# Altium footprint library PEC11R-4115F-S0018.PcbLib: 1 footprints
Each footprint in its own frame and in the unit in brackets; x right, y up, seen from the top. Pads: shape width x height; smd on the part's side, far side on the other; paste and mask are expansions set on the pad; w line width, h text height; cw(c..) or ccw(c..) is an arc to the next point about the centre after c.
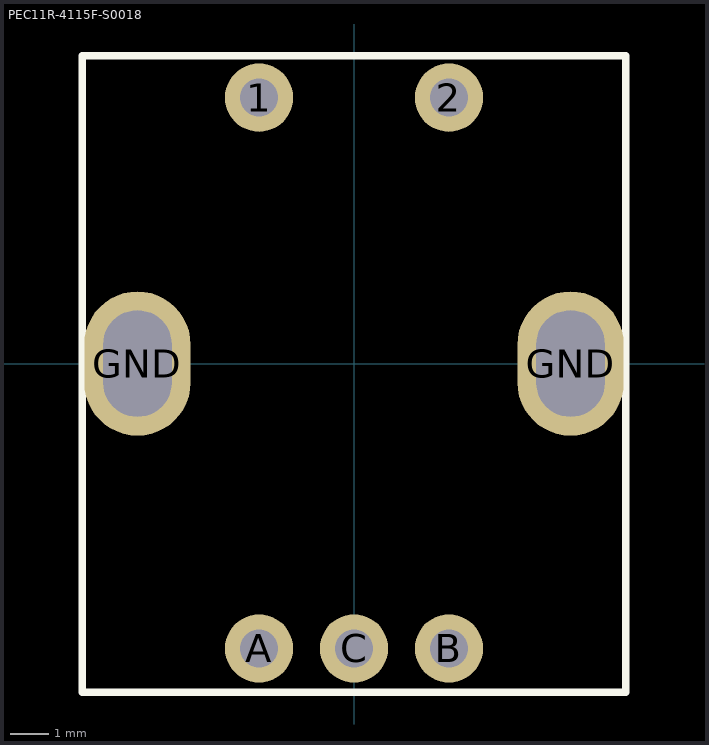
[diagram p0: the footprint, top view; thin cyan lines are the x and y axes]

## PEC11R-4115F-S0018 [mm]
height 0.9
pads (7):
  round 1.8 hole 1: 1(-2.5,7) 2(2.5,7) A(-2.5,-7.5) B(2.5,-7.5) C(0,-7.5)
  oval 2.8x3.8 hole 1.8 slot 2.8 at 90 deg: GND(-5.7,0) GND(5.7,0)
Top Overlay:
  lines w0.2: -7.15,-8.65 -7.15,8.1 7.15,8.1 7.15,-8.65 -7.15,-8.65
Top Assembly:
  lines w0.1: -7.15,-8.65 -7.15,8.1 7.15,8.1 7.15,-8.65 -7.15,-8.65
  text "'.Designator'" at -0.95,0.075 h0.7
3D body "pec11r-4x15f-sxxxx.stp": height 21.6, standoff -3.6, extent -7,-7.7 7,7.2